# EAGLE library part SP3222EUEY-L_TR (library SP3222EUEY-L_TR)
RS-232 Interface IC 1MBPS 3-5.5V RS-232 2-DRV/2-RCV LOW PWR Source: Datasheet <https://componentsearchengine.com/Datasheets/1/SP3222EUEY-L_TR.pdf>
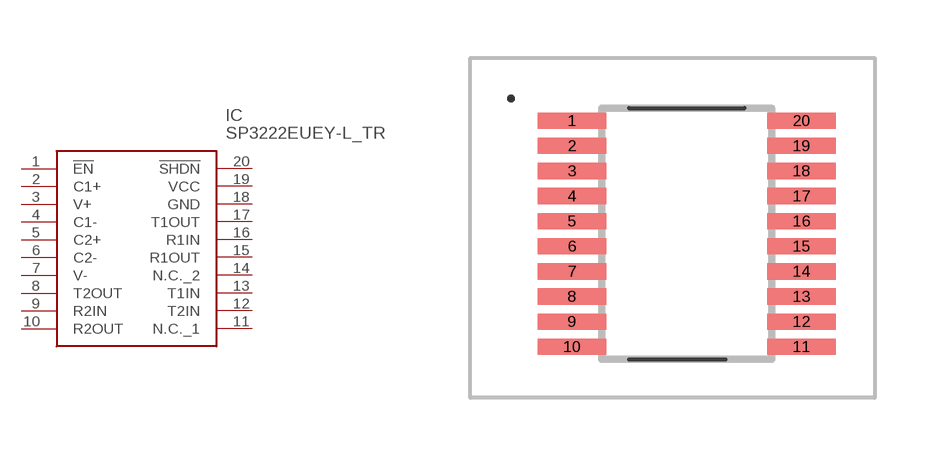
[diagram p0: symbol with the pads of SP3222EUEYLTR; footprint SP3222EUEYLTR]

Designator prefix IC

## SP3222EUEY-L_TR (Description: RS-232 Interface IC 1MBPS 3-5.5V RS-232 2-DRV/2-RCV LOW PWR; Height: 1.2mm; Manufacturer_Name: MaxLinear, Inc.; Manufacturer_Part_Number: SP3222EUEY-L/TR; Mouser_Part_Number: 701-SP3222EUEY-L/TR; Mouser_Price-Stock: https://www.mouser.co.uk/ProductDetail/MaxLinear/SP3222EUEY-L-TR?qs=Hy8V1%2FADhVJCPI50%2F0eNxw%3D%3D)  [SP3222EUEYLTR]
1  !EN
2  C1+
3  V+
4  C1-
5  C2+
6  C2-
7  V-
8  T2OUT
9  R2IN
10  R2OUT
11  N.C._1
12  T2IN
13  T1IN
14  N.C._2
15  R1OUT
16  R1IN
17  T1OUT
18  GND
19  VCC
20  !SHDN

## Footprint SP3222EUEYLTR (pad centres in mm)
SP3222EUEY-L/TR-1
smd 1.78 x 0.42: 1 -2.97,2.925; 2 -2.97,2.275; 3 -2.97,1.625; 4 -2.97,0.975; 5 -2.97,0.325; 6 -2.97,-0.325; 7 -2.97,-0.975; 8 -2.97,-1.625; 9 -2.97,-2.275; 10 -2.97,-2.925; 11 2.97,-2.925; 12 2.97,-2.275; 13 2.97,-1.625; 14 2.97,-0.975; 15 2.97,-0.325; 16 2.97,0.325; 17 2.97,0.975; 18 2.97,1.625; 19 2.97,2.275; 20 2.97,2.925